# EAGLE library part PIN_6 (library dooba)
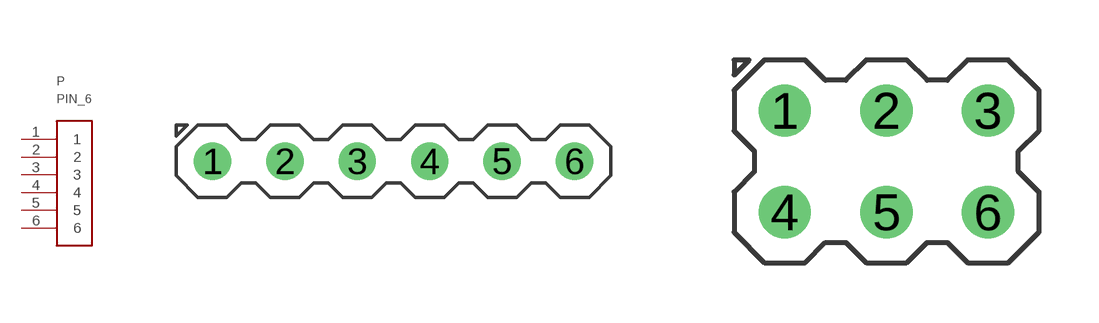
[diagram p7: symbol with the pads of PIN_6; footprints PIN_6, PIN_3X2]

Designator prefix P

## PIN_61LINE  [PIN_6]
1  1
2  2
3  3
4  4
5  5
6  6

## PIN_62LINE  [PIN_3X2]
Pads as for PIN_6

## Footprint PIN_6 (pad centres in mm)
drill 0.8: 1 -6.35,0; 2 -3.81,0; 3 -1.27,0; 4 1.27,0; 5 3.81,0; 6 6.35,0

## Footprint PIN_3X2 (pad centres in mm)
drill 0.8: 1 -2.54,1.27; 2 0,1.27; 3 2.54,1.27; 4 -2.54,-1.27; 5 0,-1.27; 6 2.54,-1.27